# Altium footprint library SZG-TEMPLATE-STD.PcbLib: 8 footprints
Each footprint in its own frame and in the unit in brackets; x right, y up, seen from the top. Pads: shape width x height; smd on the part's side, far side on the other; paste and mask are expansions set on the pad; w line width, h text height; cw(c..) or ccw(c..) is an arc to the next point about the centre after c.
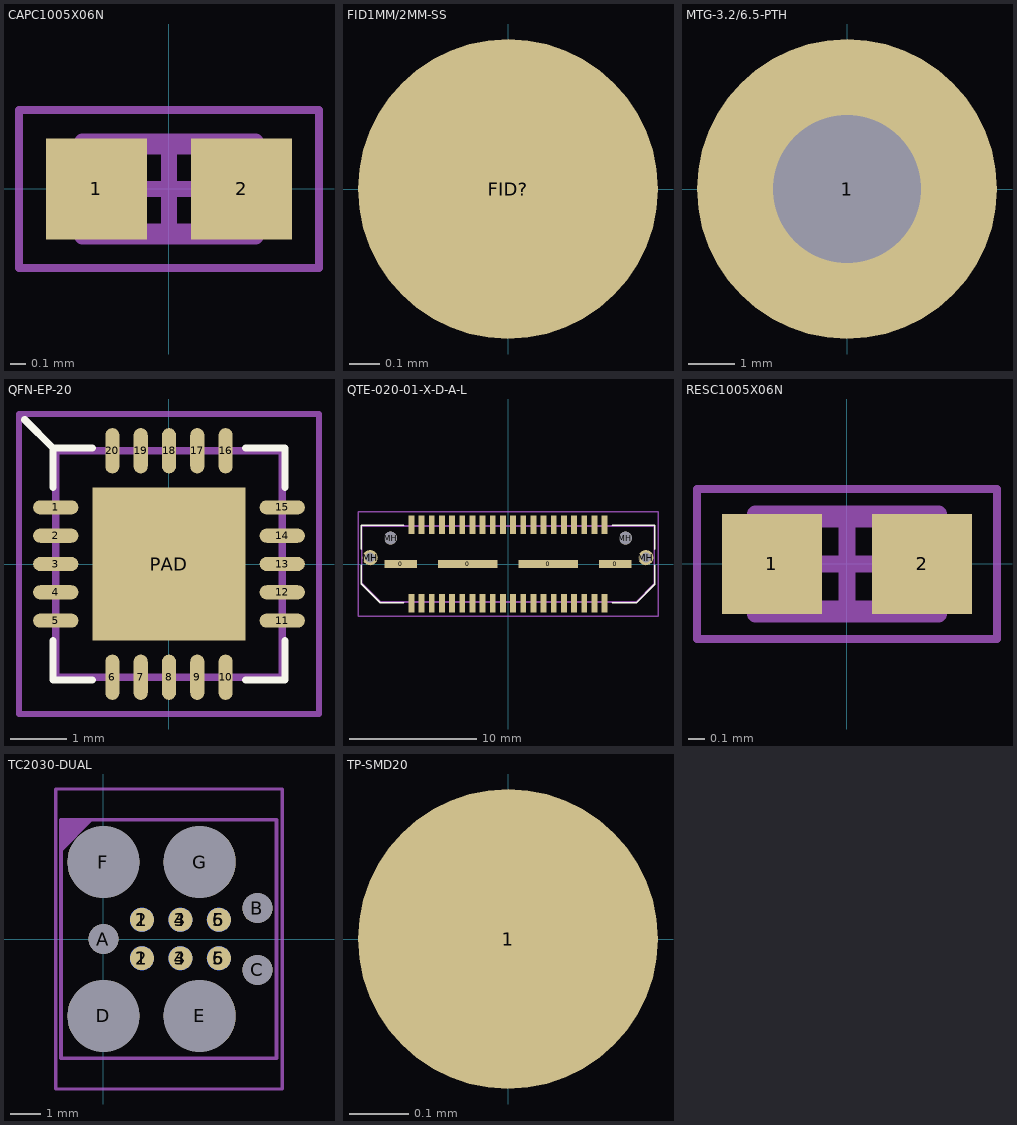
[diagram p0: the footprints below, top view; thin cyan lines are the x and y axes]

## CAPC1005X06N [mm]
pads (2):
  rect 0.64x0.64 smd: 1(-0.46,0) 2(0.46,0)
Mechanical 13:
  lines w0.1: -0.55,-0.3 0.55,-0.3 0.55,0.3 -0.55,0.3 -0.55,-0.3
Mechanical 15:
  lines w0.05: -0.95,-0.5 0.95,-0.5 0.95,0.5 -0.95,0.5 -0.95,-0.5
  lines w0.1: -0.3,0 0.3,0 ; 0,-0.3 0,0.3
Mechanical 29:
  lines w0.064: -0.5,-0.25 -0.5,0.25 0.5,0.25 0.5,-0.25 -0.5,-0.25
  text ".Designator" at -0.381,-0.102 h0.2
3D body: height 0.6, standoff 0, extent 0.35,-0.3 0.55,0.3
3D body: height 0.6, standoff 0, extent -0.55,-0.3 -0.35,0.3
3D body: height 0.6, standoff 0, extent -0.35,-0.3 0.35,0.3

## FID1MM/2MM-SS [mm]
pads (1):
  round 1 smd paste-0.5 mask+0.5: FID?(0,0)

## MTG-3.2/6.5-PTH [mm]
pads (1):
  round 6.5 hole 3.2: 1(0,0)

## QFN-EP-20 [mm]
pads (21):
  oval 0.8x0.25 smd mask+0.051: 1(-2,1) 2(-2,0.5) 3(-2,0) 4(-2,-0.5) 5(-2,-1) 11(2,-1) 12(2,-0.5) 13(2,0) 14(2,0.5) 15(2,1)
  oval 0.25x0.8 smd mask+0.051: 6(-1,-2) 7(-0.5,-2) 8(0,-2) 9(0.5,-2) 10(1,-2) 16(1,2) 17(0.5,2) 18(0,2) 19(-0.5,2) 20(-1,2)
  rect 2.7x2.7 smd paste-100 mask+0.051: PAD(0,0)
Top Overlay:
  lines w0.12: -2.05,-1.35 -2.05,-2.05 -1.35,-2.05 ; -2.05,1.35 -2.05,2.05 -1.35,2.05 ; 1.35,-2.05 2.05,-2.05 2.05,-1.35 ; 1.35,2.05 2.05,2.05 2.05,1.35
  lines w0.127: -2.55,2.55 -2.05,2.05
Top Paste:
  rectangle: -1.2,0.2 -0.2,1.2
  region: 0.2,1.2 0.2,0.2 1.2,0.2 1.2,1.2
  region: 1.2,-0.2 0.2,-0.2 0.2,-1.2 1.2,-1.2
  region: -0.2,-1.2 -0.2,-0.2 -1.2,-0.2 -1.2,-1.2
Mechanical 15:
  lines w0.1: -0.5,0 0.5,0 ; 0,-0.5 0,0.5 ; -2.65,-2.65 2.65,-2.65 2.65,2.65 -2.65,2.65 -2.65,-2.65
Mechanical 29:
  lines w0.127: -2,-2 2,-2 2,2 -2,2 -2,-2
  text ".Designator" at -1.3,-0.3 h0.76

## QTE-020-01-X-D-A-L [mm]
pads (48):
  rect 2.54x0.64 smd paste+0: 0(-8.445,0) 0(8.445,0)
  rect 4.699x0.64 smd paste+0: 0(-3.175,0) 0(3.175,0)
  rect 0.46x1.45 smd paste+0: 1(-7.6,3.09) 2(-7.6,-3.09) 3(-6.8,3.09) 4(-6.8,-3.09) 5(-5.999,3.09) 6(-5.999,-3.09) 7(-5.199,3.09) 8(-5.199,-3.09) 9(-4.399,3.09) 10(-4.399,-3.09) 11(-3.599,3.09) 12(-3.599,-3.09) 13(-2.799,3.09) 14(-2.799,-3.09) 15(-1.999,3.09) 16(-1.999,-3.09) 17(-1.199,3.09) 18(-1.199,-3.09) 19(-0.399,3.09) 20(-0.399,-3.09) 21(0.401,3.09) 22(0.401,-3.09) 23(1.201,3.09) 24(1.201,-3.09) 25(2.002,3.09) 26(2.002,-3.09) 27(2.802,3.09) 28(2.802,-3.09) 29(3.602,3.09) 30(3.602,-3.09) 31(4.402,3.09) 32(4.402,-3.09) 33(5.202,3.09) 34(5.202,-3.09) 35(6.002,3.09) 36(6.002,-3.09) 37(6.802,3.09) 38(6.802,-3.09) 39(7.602,3.09) 40(7.602,-3.09)
  round 1.2 hole 0.8 paste-2539.97: MH(-10.845,0.5) MH(10.845,0.5)
  round 1.02 hole 1.02 unplated paste-2539.97: MH(-9.24,2.04) MH(9.24,2.04)
Top Overlay:
  lines w0.12: -11.55,-0.1 -11.55,-1.55 -10.05,-3.05 -8.2,-3.05 ; -11.55,1.15 -11.55,3.05 -8.2,3.05 ; 8.2,-3.05 10.1,-3.05 11.55,-1.6 11.55,-0.1 ; 8.2,3.05 11.55,3.05 11.55,1.15
Mechanical 15:
  lines w0.1: -11.8,-4.1 11.8,-4.1 11.8,4.1 -7.9,4.1 -11.8,4.1 -11.8,-4.1
Mechanical 29:
  lines w0.127: -11.5,-1.5 -10.015,-2.985 10.065,-2.985 11.5,-1.55 11.5,2.985 -11.5,2.985 -11.5,-1.5
  text ".Designator" at -1.93,-0.559 h1.27

## RESC1005X06N [mm]
pads (2):
  rect 0.6x0.6 smd: 1(-0.45,0) 2(0.45,0)
Mechanical 13:
  lines w0.1: -0.55,-0.3 -0.55,0.3 0.55,0.3 0.55,-0.3 -0.55,-0.3
Mechanical 15:
  lines w0.05: -0.9,-0.45 -0.9,0.45 0.9,0.45 0.9,-0.45 -0.9,-0.45
  lines w0.1: -0.3,0 0.3,0 ; 0,-0.3 0,0.3
Mechanical 29:
  lines w0.064: -0.5,-0.25 0.5,-0.25 0.5,0.25 -0.5,0.25 -0.5,-0.25
  text ".Designator" at -0.384,-0.1 h0.2
3D body: height 0.6, standoff 0, extent -0.35,-0.3 0.35,0.3
3D body: height 0.6, standoff 0, extent -0.55,-0.3 -0.35,0.3
3D body: height 0.6, standoff 0, extent 0.35,-0.3 0.55,0.3

## TC2030-DUAL [mil]
pads (19):
  round 31 smd paste-393.7: 1(50,-25) 2(50,25) 3(100,-25) 4(100,25) 5(150,-25) 6(150,25)
  round 31 smd far side paste-393.7: 1(50,25) 2(50,-25) 3(100,25) 4(100,-25) 5(150,25) 6(150,-25)
  round 39 hole 39 unplated: A(0,0) B(200,40) C(200,-40)
  round 93.5 hole 93.5 unplated: D(0,-100) E(125,-100) F(0,100) G(125,100)
Mechanical 15:
  lines w3.94: -62.01,-194.88 -62.01,194.88 232.28,194.88 232.28,-194.88 -62.01,-194.88
Mechanical 29:
  lines w5: -55,-155 225,-155 225,155 -55,155 -55,-155
  text ".Designator" at 14.55,-22 h50
Mechanical 30:
  region: -55,155 -13,155 -55,113
  lines w5: -55,-155 225,-155 225,155 -55,155 -55,-155

## TP-SMD20 [mil]
pads (1):
  round 20 smd paste-78.74: 1(0,0)